# EAGLE library part BTN8982TA (library BTN8982TA)
BTN8982TA High Current PN Half Bridge NovalithIC TO127P1500X440-8N-1
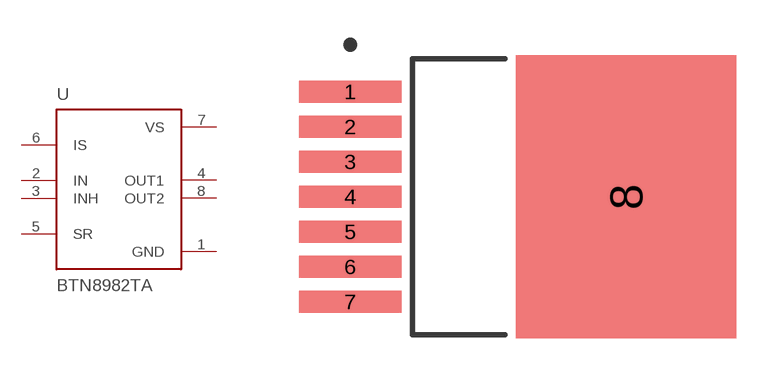
[diagram p0: symbol with the pads of TO127P1500X440-8N-1; footprint TO127P1500X440-8N-1]

Designator prefix U

## BTN8982TA  [TO127P1500X440-8N-1]
1  GND  pwr
2  IN  in
3  INH  in
4  OUT1  out
5  SR  in
6  IS  out
7  VS  pwr
8  OUT2  out

## Footprint TO127P1500X440-8N-1 (pad centres in mm)
Original name TO127P1500X440-8N-1
smd 3.708 x 0.787: 1 -5.004,3.81; 2 -5.004,2.54; 3 -5.004,1.27; 4 -5.004,0; 5 -5.004,-1.27; 6 -5.004,-2.54; 7 -5.004,-3.81
smd 8.001 x 10.262: 8 5.004,0